# EAGLE library part SF303FJ26_JOYSTICK (library futz)
SF303FJ26 5-Way Tactile Switch
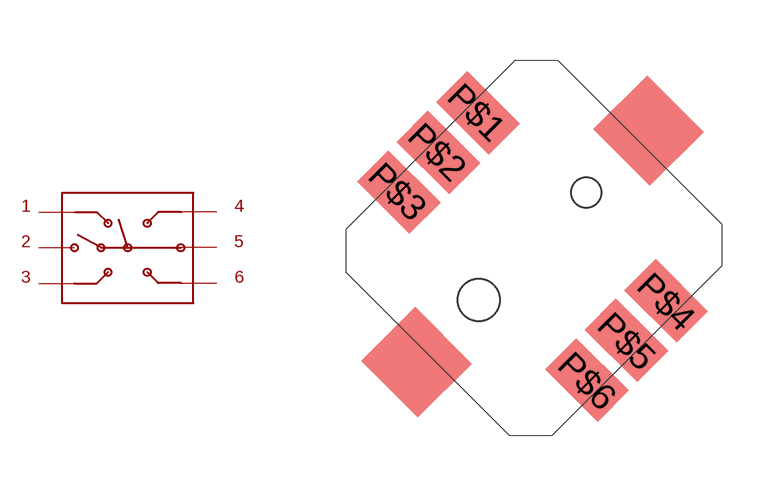
[diagram p9: symbol with the pads of SF303GJ26_JOYSTICK; footprint SF303GJ26_JOYSTICK]

Designator prefix -

## SF303FJ26_JOYSTICK  [SF303GJ26_JOYSTICK]
P$1  1
P$2  2
P$3  3
P$4  4
P$5  5
P$6  6

## Footprint SF303GJ26_JOYSTICK (pad centres in mm)
smd 1.778 x 0.914 rotated 315: P$1 -1.364,3.415; P$2 -2.354,2.425; P$3 -3.344,1.435; P$4 3.373,-1.323; P$5 2.383,-2.313; P$6 1.393,-3.303
hole 0.75 at 1.367,1.399
hole 1.05 at -1.32,-1.287